# Altium schematic symbol library M_CON_POLARIZING_PLUG.Schlib: 1 symbol
Pins are listed as number, name and electrical type; pins without a type are passive.

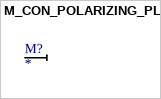
[diagram p0: symbol M_CON_POLARIZING_PLUG]

## M_CON_POLARIZING_PLUG
designator M?  (mechanical)